# Altium footprint library SSF1919P-S.PcbLib: 1 footprints
Each footprint in its own frame and in the unit in brackets; x right, y up, seen from the top. Pads: shape width x height; smd on the part's side, far side on the other; paste and mask are expansions set on the pad; w line width, h text height; cw(c..) or ccw(c..) is an arc to the next point about the centre after c.
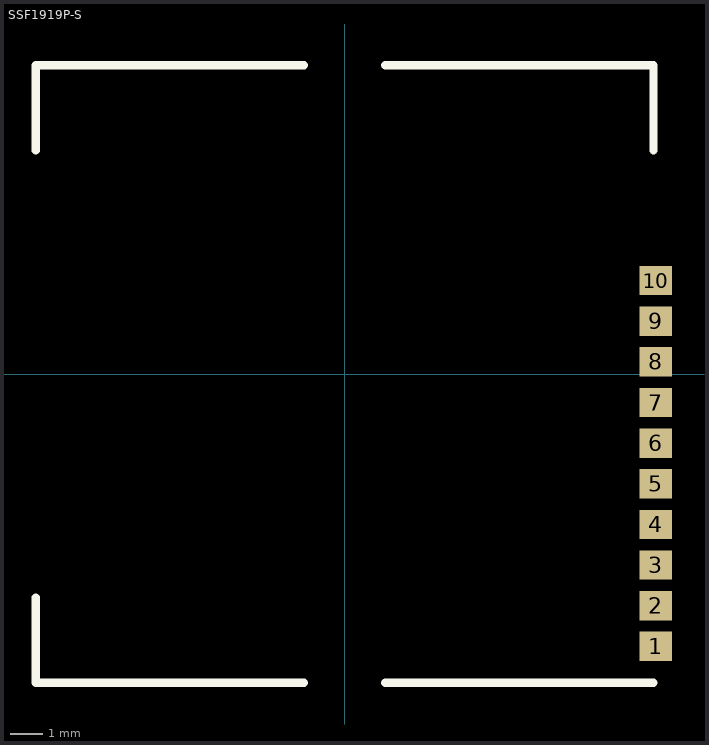
[diagram p0: the footprint, top view; thin cyan lines are the x and y axes]

## SSF1919P-S [mm]
pads (10):
  rect 1x0.9 smd: 1(9.577,-8.377) 2(9.577,-7.127) 3(9.577,-5.877) 4(9.577,-4.627) 5(9.577,-3.377) 6(9.577,-2.127) 7(9.577,-0.877) 8(9.577,0.373) 9(9.577,1.623) 10(9.577,2.873)
Top Overlay:
  lines w0.254: -9.5,-6.875 -9.5,-9.5 -1.25,-9.5 ; -9.5,6.875 -9.5,9.5 -1.25,9.5 ; 1.25,-9.5 9.5,-9.5 ; 1.25,9.5 9.5,9.5 9.5,6.875